# EAGLE library part TC7MBL3253 (library SparkFun-DigitalIC)
74CBT 2 x 4:1 multiplexer. 1OE and 2OE are output enable pins, and S0 and S1 determine which ouptut (xB4, xB3, ...) is connected to the xA
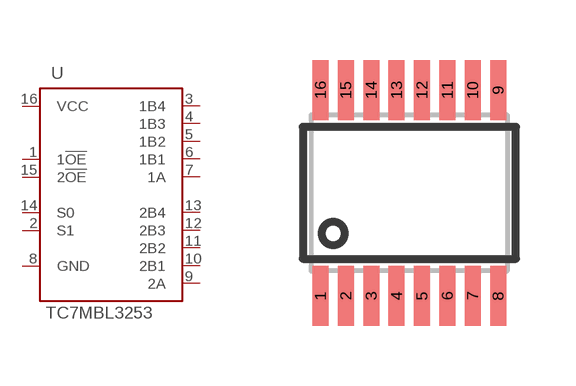
[diagram p118: symbol with the pads of SSOP16-PRACTICE; footprint SSOP16-PRACTICE]

Designator prefix U

## TC7MBL3253  [SSOP16-PRACTICE]
1  1!OE  in
2  S1
3  1B4
4  1B3
5  1B2
6  1B1
7  1A
8  GND  pwr
9  2A
10  2B1
11  2B2
12  2B3
13  2B4
14  S0
15  2!OE  in
16  VCC  pwr

## Footprint SSOP16-PRACTICE (pad centres in mm)
SSOP-16 Package for 74CBTLV3253
smd 0.4 x 1.5: 1 -2.223,-2.578; 2 -1.587,-2.578; 3 -0.953,-2.578; 4 -0.318,-2.578; 5 0.318,-2.578; 6 0.953,-2.578; 7 1.587,-2.578; 8 2.223,-2.578; 9 2.223,2.578; 10 1.587,2.578; 11 0.953,2.578; 12 0.318,2.578; 13 -0.318,2.578; 14 -0.953,2.578; 15 -1.587,2.578; 16 -2.223,2.578